# EAGLE library part LT4412 (library Custom_Library)
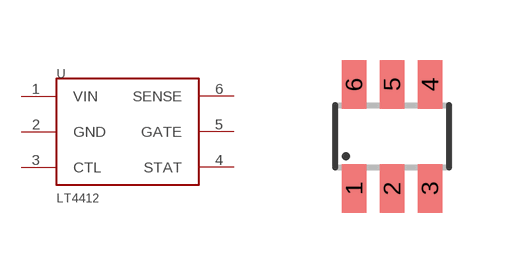
[diagram p0: symbol with the pads of TSOT23-6; footprint TSOT23-6]

Designator prefix -

## LT4412  [TSOT23-6]
1  VIN
2  GND
3  CTL
4  STAT
5  GATE
6  SENSE

## Footprint TSOT23-6 (pad centres in mm)
smd 0.62 x 1.22: 1 -0.95,-1.3; 2 0,-1.3; 3 0.95,-1.3; 4 0.95,1.3; 5 0,1.3; 6 -0.95,1.3